# Altium schematic symbol library RoketAnaSistemSematikKütüphane.SchLib: 40 symbols
Pins are listed as number, name and electrical type; pins without a type are passive.

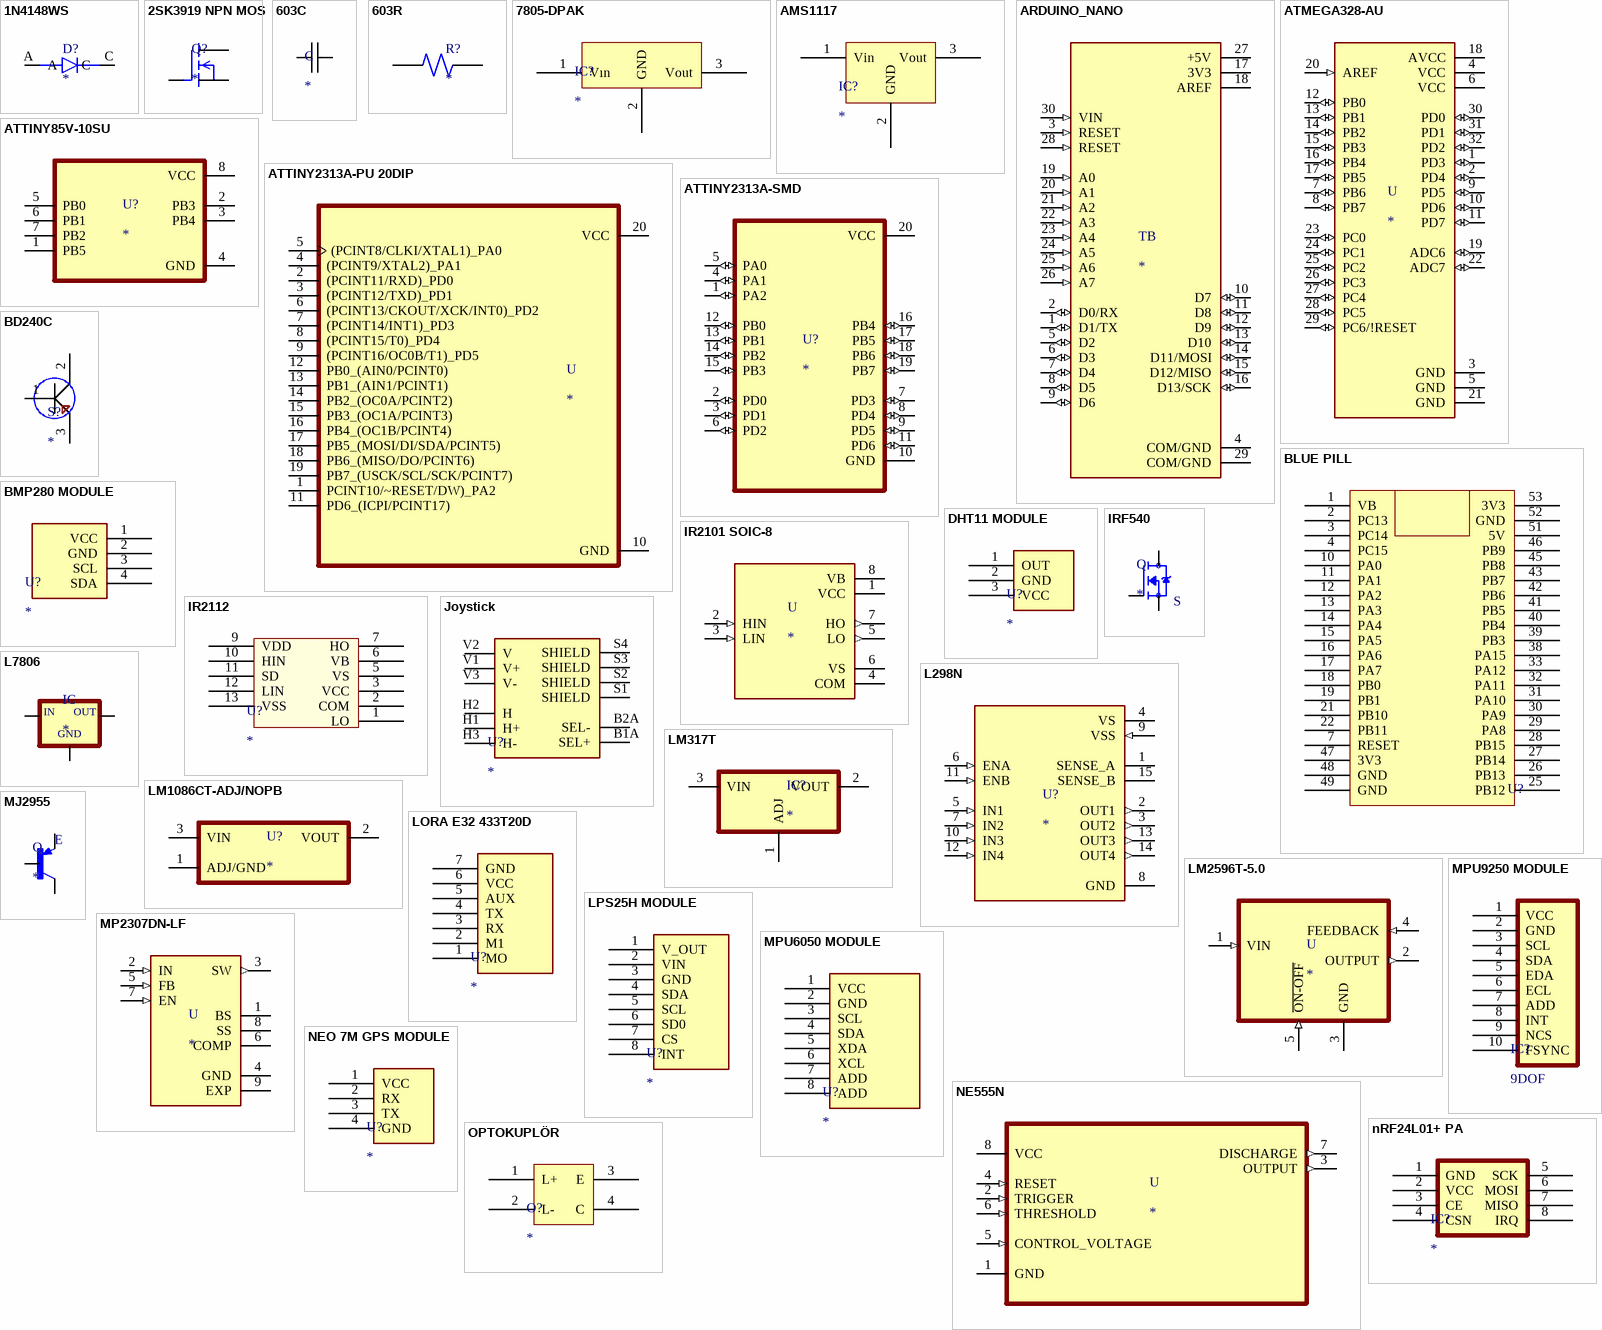
[diagram p0: symbols 1N4148WS to OPTOKUPLÖR]

## 1N4148WS
designator D?
Diode Standard 75V 150mA Surface Mount SOD-323F; MP: 1N4148WS; MF: ON Semiconductor; Price: None; SnapEDA_Link: https://www.snapeda.com/parts/1N4148WS/ON%20Semiconductor/view-part/2747266/?ref=snap; Check_prices: https://www.snapeda.com/parts/1N4148WS/ON%20Semiconductor/view-part/2747266/?ref=eda; Availability: Good; Value: *; Purchase-URL: https://pricing.snapeda.com/search/part/1N4148WS/?ref=eda; Package: SOD-323FL-2 ON Semiconductor
footprint 1N4148WS (SMD DIODE)
pins: A, C

## 2SK3919 NPN MOS
designator Q?
N-Channel 25V 64A _ Through Hole TO-252AB; MF: International Rectifier; MP: IRFL014; SnapEDA_Link: https://www.snapeda.com/parts/IRFL014/International+Rectifier/view-part/?ref=snap; Check_prices: https://www.snapeda.com/parts/IRFL014/International+Rectifier/view-part/?ref=eda; Availability: In Stock; Value: *; Package: SOT-223 International Rectifier; Purchase-URL: https://pricing.snapeda.com/search/part/IRFL014/?ref=eda; Price: None
footprint 2SK3919 (D-PAK, 3-Pads, Body 6,15x6,61mm (max), IPC Medium Density)
pins: 1 G, 2 D, 3 S

## 603C
designator C
Ceramic Capacitor; MF: AVX; MP: LD035C153KAB2A_0; SnapEDA_Link: https://www.snapeda.com/parts/LD035C153KAB2A%5C500/AVX/view-part/2023938/?ref=snap; Price: None; Package: 0603 AVX; Availability: Unavailable; Value: *
footprint 603C
pins: 1, 2

## 603R
designator R?
Fixed Resistor CRGCQ 0603 22K 5%; MP: 2-2176340-7; Package: None; Price: None; Value: *; Availability: Unavailable
footprint 603R
pins: 1, 2

## 7805-DPAK
designator IC?
SMD VOLTAGE REG +7V TO 5V
footprint 7805-DPAK (SMD VOLTAGE REGULATOR)
pins: 1 Vın, 2 GND, 3 Vout

## AMS1117
designator IC?
SOT 223 - 5V
footprint AMS1117 - 5V (SOT-223)
pins: 1 Vin, 2 GND, 3 Vout

## ARDUINO_NANO
designator TB
ATSAMD21G18A Arduino Nano 33 IoT SAM D ARMÂ® CortexÂ®-M0+ MCU 32-Bit Embedded Evaluation Board; MP: ARDUINO NANO; Package: None; Price: None; Availability: Unavailable; Value: *; MF: Arduino; SnapEDA_Link: https://www.snapeda.com/parts/ARDUINO%20NANO/Arduino/view-part/1128261/?ref=snap
footprint ARDUINO NANO (NANO MODULE)
pins: 1 D1/TX (io), 2 D0/RX (io), 3 RESET (in), 4 COM/GND (power), 5 D2 (io), 6 D3 (io), 7 D4 (io), 8 D5 (io), 9 D6 (io), 10 D7 (io), 11 D8 (io), 12 D9 (io), 13 D10 (io), 14 D11/MOSI (io), 15 D12/MISO (io), 16 D13/SCK (io), 17 3V3 (power), 18 AREF (power), 19 A0 (in), 20 A1 (in), 21 A2 (in), 22 A3 (in), 23 A4 (in), 24 A5 (in), 25 A6 (in), 26 A7 (in), 27 +5V (power), 28 RESET (in), 29 COM/GND (power), 30 VIN (in)

## ATMEGA328-AU
designator U
AVR AVRÂ® ATmega Microcontroller IC 8-Bit 20MHz 32KB _16K x 16_ FLASH 32-TQFP _7x7_; MP: ATMEGA328-AU; MF: Microchip; Price: None; Package: TQFP-32 Microchip; Value: *; Availability: Unavailable; SnapEDA_Link: https://www.snapeda.com/parts/ATMEGA328-AU/Microchip/view-part/1227240/?ref=snap
footprint ATMEGA328-AU
pins: 1 PD3 (io), 2 PD4 (io), 3 GND (power), 4 VCC (power), 5 GND (power), 6 VCC (power), 7 PB6 (io), 8 PB7 (io), 9 PD5 (io), 10 PD6 (io), 11 PD7 (io), 12 PB0 (io), 13 PB1 (io), 14 PB2 (io), 15 PB3 (io), 16 PB4 (io), 17 PB5 (io), 18 AVCC (power), 19 ADC6 (io), 20 AREF (in), 21 GND (power), 22 ADC7 (io), 23 PC0 (io), 24 PC1 (io), 25 PC2 (io), 26 PC3 (io), 27 PC4 (io), 28 PC5 (io), 29 PC6/!RESET (io), 30 PD0 (io), 31 PD1 (io), 32 PD2 (io)

## ATTINY85V-10SU
designator U?
AVR AVRÂ® ATtiny Microcontroller IC 8-Bit 10MHz 8KB (4K x 16) FLASH 8-SOIC; MF: Microchip Technology; MP: ATTINY85V-10SU; Arrow_Electronics-Purchase-URL: https://snapeda.com/shop?store=Arrow+Electronics&id=4710232; Value: *; SnapEDA_Link: https://www.snapeda.com/parts/ATTINY85V-10SU/Microchip/view-part/4710232/?ref=snap; DigiKey-Purchase-URL: https://snapeda.com/shop?store=DigiKey&id=4710232; Mouser-Purchase-URL: https://snapeda.com/shop?store=Mouser&id=4710232; Package: SOIC-8 Microchip Technology
footprint ATTINY85V-10SU (IC-85 MCU 8BIT 8KB FLASH 8SOIC)
pins: 1 PB5, 2 PB3, 3 PB4, 4 GND, 5 PB0, 6 PB1, 7 PB2, 8 VCC

## ATTINY2313A-PU 20DIP
designator U
IC MCU 8BIT 2KB FLASH 20DIP; MF: Microchip Technology; MP: ATTINY2313A-PU; DigiKey-Purchase-URL: https://snapeda.com/shop?store=DigiKey&id=4833406; Mouser-Purchase-URL: https://snapeda.com/shop?store=Mouser&id=4833406; SnapEDA_Link: https://www.snapeda.com/parts/ATTINY2313A-PU/Atmel/view-part/4833406/?ref=snap; Price: None; Value: *; Availability: Unavailable; Package: None
footprint ATtiny2313 (ATtiny2313A-PU 8-Bit 20MHz MCU DIP-20)
pins: 1 PCINT10/~RESET/DW)_PA2, 2 (PCINT11/RXD)_PD0, 3 (PCINT12/TXD)_PD1, 4 (PCINT9/XTAL2)_PA1, 5 (PCINT8/CLKI/XTAL1)_PA0, 6 (PCINT13/CKOUT/XCK/INT0)_PD2, 7 (PCINT14/INT1)_PD3, 8 (PCINT15/T0)_PD4, 9 (PCINT16/OC0B/T1)_PD5, 10 GND (power), 11 PD6_(ICPI/PCINT17), 12 PB0_(AIN0/PCINT0), 13 PB1_(AIN1/PCINT1), 14 PB2_(OC0A/PCINT2), 15 PB3_(OC1A/PCINT3), 16 PB4_(OC1B/PCINT4), 17 PB5_(MOSI/DI/SDA/PCINT5), 18 PB6_(MISO/DO/PCINT6), 19 PB7_(USCK/SCL/SCK/PCINT7), 20 VCC (power)

## ATTINY2313A-SMD
designator U?
AVR AVRÂ® ATtiny Microcontroller IC 8-Bit 20MHz 2KB (1K x 16) FLASH 20-SOIC; MP: ATTINY2313A-SU; MF: Rochester Electronics, LLC; Price: None; Package: None; Check_prices: https://www.snapeda.com/parts/ATTINY2313A-SU/Rochester%20Electronics/view-part/5164743/?ref=eda; Value: *; Availability: In Stock; SnapEDA_Link: https://www.snapeda.com/parts/ATTINY2313A-SU/Rochester%20Electronics/view-part/5164743/?ref=snap
footprint ATTINY2313 SMD (SMD MICROCONTROLLER)
pins: 1 PA2 (io), 2 PD0 (io), 3 PD1 (io), 4 PA1 (io), 5 PA0 (io), 6 PD2 (io), 7 PD3 (io), 8 PD4 (io), 9 PD5 (io), 10 GND (power), 11 PD6 (io), 12 PB0 (io), 13 PB1 (io), 14 PB2 (io), 15 PB3 (io), 16 PB4 (io), 17 PB5 (io), 18 PB6 (io), 19 PB7 (io), 20 VCC (power)

## BD240C
designator S?
TO 220
footprint BD240C (TO 220)
pins: 1, 2, 3

## BLUE PILL
designator U?
STM32F013C8T6 BLUE PILL MODULE
footprint STM32--BLUE PILL
pins: 1 VB, 2 PC13, 3 PC14, 4 PC15, 7 RESET, 10 PA0, 11 PA1, 12 PA2, 13 PA3, 14 PA4, 15 PA5, 16 PA6, 17 PA7, 18 PB0, 19 PB1, 21 PB10, 22 PB11, 25 PB12, 26 PB13, 27 PB14, 28 PB15, 29 PA8, 30 PA9, 31 PA10, 32 PA11, 33 PA12, 38 PA15, 39 PB3, 40 PB4, 41 PB5, 42 PB6, 43 PB7, 45 PB8, 46 PB9, 47 3V3, 48 GND, 49 GND, 51 5V, 52 GND, 53 3V3

## BMP280 MODULE
designator U?
PRESSURE,ALTITUDE SENSOR MODULE
footprint BMP280 MODULE (SENSOR MODULE)
pins: 1 VCC, 2 GND, 3 SCL, 4 SDA

## DHT11 MODULE
designator U?
TEMPERATURE SENSOR MODULE
footprint DHT11 MODULE (TEMPERATURE SENSOR MODULE)
pins: 1 OUT, 2 GND, 3 VCC

## IR2101 SOIC-8
designator U
Half-Bridge Gate Driver IC Non-Inverting 8-SOIC; MP: IR2101S; MF: Infineon Technologies; Availability: Unavailable; Value: *; Package: SOIC-8 Infineon; Price: None; SnapEDA_Link: https://www.snapeda.com/parts/IR2101S/Infineon%20Technologies/view-part/589975/?ref=snap; BuyPart: https://www.snapeda.com/parts/IR2101S/Infineon%20Technologies/view-part/589975/?ref=eda
footprint IR2101 (SOIC-8 FET DRIVER)
pins: 1 VCC (power), 2 HIN (in), 3 LIN (in), 4 COM (power), 5 LO (out), 6 VS (power), 7 HO (out), 8 VB (power)

## IR2112
designator U?
HIGH AND LOW SIDE DRIVER THOURH HOLE/SMD; MP: IR2112S; Package: None; Price: None; Value: *; Availability: Unavailable
footprint IR2112 (DIP14 BOOSTRAP DRIVER)
pins: 1 LO, 2 COM, 3 VCC, 5 VS, 6 VB, 7 HO, 9 VDD, 10 HIN, 11 SD, 12 LIN, 13 VSS

## IRF540
designator Q
N-Channel 100V 22A _Tc_ 85W _Tc_ Through Hole TO-220AB; MF: Vishay; MP: IRF540; Package: TO-220-3 Samsung; Price: None; Availability: Unavailable; SnapEDA_Link: https://www.snapeda.com/parts/IRF540/Vishay%20Siliconix/view-part/1024526/?ref=snap; Value: *
footprint IRF540 MOSFET (TO254 N CHANNEL MOSFET)
pins: 1 G, 2 D, 3 S

## Joystick
designator U?
Joystick, 2 - Axis Analog _Resistive_ Output; MF: SparkFun Electronics; MP: COM-09032; SnapEDA_Link: https://www.snapeda.com/parts/COM-09032/SparkFun%20Electronics/view-part/888157/?ref=snap; Availability: Unavailable; Value: *; Price: None; Package: SparkFun Electronics
footprint Joystick
pins: B1A SEL+, B2A SEL-, H1 H+, H2 H, H3 H-, S1 SHIELD, S2 SHIELD, S3 SHIELD, S4 SHIELD, V1 V+, V2 V, V3 V-

## L298N
designator U?
Dual Full Bridge Motor Driver 15-Pin(15+Tab) MULTIWATT V Tube; MP: L298N; Value: *; Package: None; Availability: Unavailable; Price: None
footprint l298 (motor driver)
pins: 1 SENSE_A, 2 OUT1 (out), 3 OUT2 (out), 4 VS (power), 5 IN1 (in), 6 ENA (in), 7 IN2 (in), 8 GND (power), 9 VSS (in), 10 IN3 (in), 11 ENB (in), 12 IN4 (in), 13 OUT3 (out), 14 OUT4 (out), 15 SENSE_B

## L7806
designator IC
TO 220 6V 1A; MP: L7805; MF: STMicroelectronics; Package: TO-263-3 Inchange Semiconductor; Availability: Unavailable; Value: *; SnapEDA_Link: https://www.snapeda.com/parts/L7805/STMicroelectronics/view-part/563125/?ref=snap; Price: None
footprint 7806 (TO 220 6V 1A)
pins: GND, IN, OUT

## LM317T
designator IC?
1.5-A, 40-V, adjustable linear voltage regulator 3-TO-220; MF: Texas Instruments; MP: LM317T; Arrow_Electronics-Purchase-URL: https://snapeda.com/shop?store=Arrow+Electronics&id=2756289; Price: None; Value: *; Availability: Unavailable; DigiKey-Purchase-URL: https://snapeda.com/shop?store=DigiKey&id=2756289; Mouser-Purchase-URL: https://snapeda.com/shop?store=Mouser&id=2756289; SnapEDA_Link: https://www.snapeda.com/parts/LM317T/Texas%20Instruments/view-part/2756289/?ref=snap; Package: TO-220-3 Texas Instruments
footprint LM317 (1.5A ADJ LINEAR REGULATOR)
pins: 1 ADJ, 2 VOUT, 3 VIN

## LM1086CT-ADJ/NOPB
designator U?
1.5-A, 29-V, linear voltage regulator 3-TO-220 0 to 125; MF: Texas Instruments; MP: LM1086CT-ADJ/NOPB; Purchase-URL: https://pricing.snapeda.com/search/part/LM1086CT-ADJ/NOPB/?ref=eda; SnapEDA_Link: https://www.snapeda.com/parts/LM1086CT-ADJ/NOPB/Texas%20Instruments/view-part/27686/?ref=snap; Package: TO-220-3 Texas Instruments; Price: None; Value: *; Availability: Warning; Check_prices: https://www.snapeda.com/parts/LM1086CT-ADJ/NOPB/Texas%20Instruments/view-part/27686/?ref=eda
footprint LM1086 TO256 (3V3 1.5A LINEAR REGULATOR)
pins: 1 ADJ/GND, 2 VOUT, 3 VIN

## LM2596T-5.0
designator U
Buck Switching Regulator IC Positive Fixed 5V 1 Output 3A TO-220-5 Formed Leads; MF: Texas Instruments; MP: LM2596T5.0; Price: None; Availability: Unavailable; SnapEDA_Link: https://www.snapeda.com/parts/LM2596T5.0/Texas%20Instruments/view-part/49420/?ref=snap; Package: TO-220 Texas Instruments; Value: *
footprint LM2596 (TO-220)
pins: 1 VIN (in), 2 OUTPUT (out), 3 GND (power), 4 FEEDBACK (in), 5 ~{ON-OFF} (in)

## LORA E32 433T20D
designator U?
LORA E32 433T20D RF MODULE
footprint LORA E32 433T20D (LORA E32 433T20D RF MODULE)
pins: 1 MO, 2 M1, 3 RX, 4 TX, 5 AUX, 6 VCC, 7 GND

## LPS25H MODULE
designator U?
ALTITUDE, PRESSURE SENSOR MODULE
footprint LPS25H SENSOR (SENSOR MODULE)
pins: 1 V_OUT, 2 VIN, 3 GND, 4 SDA, 5 SCL, 6 SD0, 7 CS, 8 INT

## MJ2955
designator Q
Bipolar _BJT_ Transistor PNP 60V 15A 115W Chassis Mount TO-3; MF: STMicroelectronics; MP: MJ2955; SnapEDA_Link: https://www.snapeda.com/parts/MJ2955/STMicroelectronics/view-part/1262668/?ref=snap; Price: None; Value: *; Availability: Unavailable; Package: TO-3 NTE Electronics
footprint MJ2955 (TO3)
pins: B, C, C/ C, E

## MP2307DN-LF
designator U
Buck Switching Regulator IC Positive Adjustable 0.925V 1 Output 3A 8-SOIC _0.154, 3.90mm Width_ Exposed Pad; MP: MP2307DN-LF; MF: Monolithic Power; Availability: Unavailable; Price: None; Package: SOIC-8 Monolithic Power Systems; Value: *; SnapEDA_Link: https://www.snapeda.com/parts/MP2307DN-LF/Monolithic%20Power%20Systems%20Inc./view-part/424671/?ref=snap
footprint mp2307dn (Buck Converter)
pins: 1 BS, 2 IN (in), 3 SW (out), 4 GND (power), 5 FB (in), 6 COMP, 7 EN (in), 8 SS, 9 EXP (power)

## MPU6050 MODULE
designator U?
GYRO SENSOR MODULE
footprint MPU 6050 (GYRO SENSOR MODULE)
pins: 1 VCC, 2 GND, 3 SCL, 4 SDA, 5 XDA, 6 XCL, 7 ADD, 8 ADD

## MPU9250 MODULE
designator IC?, comment 9DOF
9 DOF IMU SENSOR MODULE. I2C/SPI COMM.
footprint MPU9250 MODULE - duplicate (9 DOF IMU SENSOR MODULE)
pins: 1 VCC, 2 GND, 3 SCL, 4 SDA, 5 EDA, 6 ECL, 7 ADD, 8 INT, 9 NCS, 10 FSYNC

## NE555N
designator U
555 Type, Timer/Oscillator _Single_ IC 8-DIP; MF: ON Semiconductor; MP: NE555N; Value: *; Price: None; Package: DIP-8 Texas Instruments; SnapEDA_Link: https://www.snapeda.com/parts/NE555N/ON%20Semiconductor/view-part/2757993/?ref=snap; Availability: Unavailable
footprint NE555 -T
pins: 1 GND, 2 TRIGGER (in), 3 OUTPUT (out), 4 RESET (in), 5 CONTROL_VOLTAGE (in), 6 THRESHOLD (in), 7 DISCHARGE (out), 8 VCC (power)

## NEO 7M GPS MODULE
designator U?
NEO 7M GPS MODULE
footprint NEO 7M GPS MODULE (GPS MODULE)
pins: 1 VCC, 2 RX, 3 TX, 4 GND

## nRF24L01+ PA
designator IC?
Wireless Module
footprint nRF24L01+ PA (Wireless Module)
pins: 1 GND, 2 VCC, 3 CE, 4 CSN, 5 SCK, 6 MOSI, 7 MISO, 8 IRQ

## OPTOKUPLÖR
designator O?
footprint OPTOKUPLÖR
pins: 1 L+, 2 L-, 3 E, 4 C

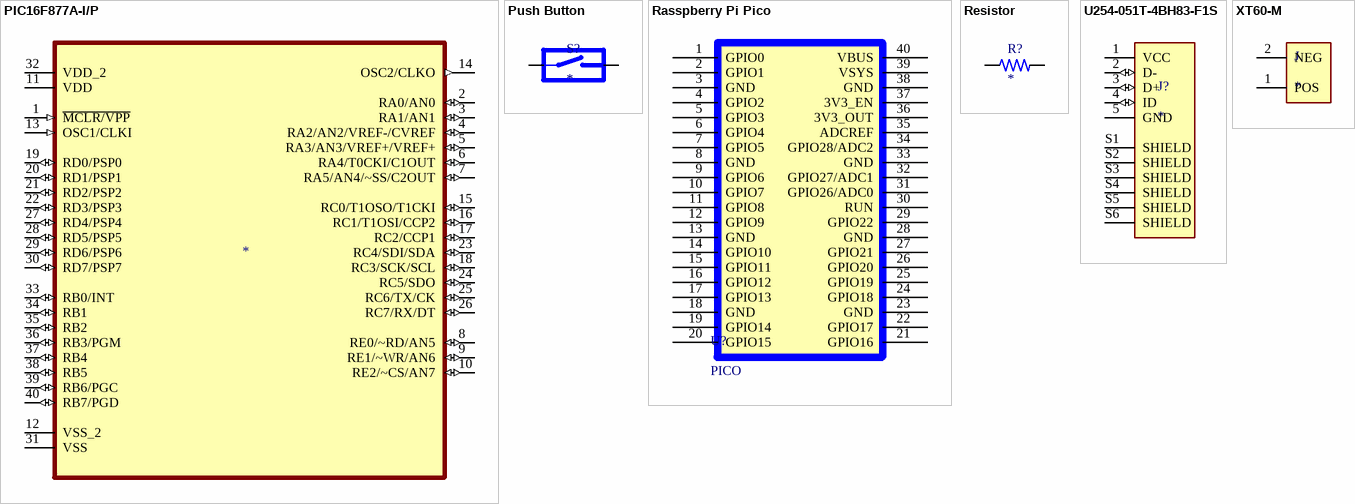
[diagram p1: symbols PIC16F877A-I/P to XT60-M]

## PIC16F877A-I/P
designator ?
PIC PICÂ® 16F Microcontroller IC 8-Bit 20MHz 14KB _8K x 14_ FLASH 40-PDIP; MP: PIC16F877A-I/P; MF: Microchip; Package: DIP-40 Microchip; Price: None; Value: *; SnapEDA_Link: https://www.snapeda.com/parts/PIC16F877A-I/P/Microchip/view-part/1877145/?ref=snap; Availability: Unavailable
footprint pıc16f877
pins: 1 ~{MCLR/VPP} (in), 2 RA0/AN0 (io), 3 RA1/AN1 (io), 4 RA2/AN2/VREF-/CVREF (io), 5 RA3/AN3/VREF+/VREF+ (io), 6 RA4/T0CKI/C1OUT (io), 7 RA5/AN4/~SS/C2OUT (io), 8 RE0/~RD/AN5 (io), 9 RE1/~WR/AN6 (io), 10 RE2/~CS/AN7 (io), 11 VDD (power), 12 VSS_2 (power), 13 OSC1/CLKI (in), 14 OSC2/CLKO (out), 15 RC0/T1OSO/T1CKI (io), 16 RC1/T1OSI/CCP2 (io), 17 RC2/CCP1 (io), 18 RC3/SCK/SCL (io), 19 RD0/PSP0 (io), 20 RD1/PSP1 (io), 21 RD2/PSP2 (io), 22 RD3/PSP3 (io), 23 RC4/SDI/SDA (io), 24 RC5/SDO (io), 25 RC6/TX/CK (io), 26 RC7/RX/DT (io), 27 RD4/PSP4 (io), 28 RD5/PSP5 (io), 29 RD6/PSP6 (io), 30 RD7/PSP7 (io), 31 VSS (power), 32 VDD_2 (power), 33 RB0/INT (io), 34 RB1 (io), 35 RB2 (io), 36 RB3/PGM (io), 37 RB4 (io), 38 RB5 (io), 39 RB6/PGC (io), 40 RB7/PGD (io)

## Push Button
designator S?
Switch Push Button N.O. SPST Round Button 0.05A 12VDC 1VA Alternate Contact Gull Wing SMD T/R; MP: FSM6JSMATR; MF: TE Connectivity; SnapEDA_Link: https://www.snapeda.com/parts/FSM6JSMATR/TE%20Connectivity%20ALCOSWITCH%20Switches/view-part/518064/?ref=snap; Price: None; TE_purchase_URL: https://www.te.com/usa-en/product-5-1437565-0.html?te_bu=Cor&te_type=disp&te_campaign=seda_glo_cor-seda-global-disp-prtnr-fy19-seda-model-bom-cta_sma-317_1&elqCampaignId=32493; Value: *; Availability: Unavailable; Package: None
footprint Push Button
pins: 1 2, 2, 3 1, 4 1

## Rasspberry Pi Pico
designator U?, comment PICO
133MHz MICROCONTROLLER
footprint RASSBERY PI PICO (PROCESSOR MODULE)
pins: 1 GPIO0, 2 GPIO1, 3 GND, 4 GPIO2, 5 GPIO3, 6 GPIO4, 7 GPIO5, 8 GND, 9 GPIO6, 10 GPIO7, 11 GPIO8, 12 GPIO9, 13 GND, 14 GPIO10, 15 GPIO11, 16 GPIO12, 17 GPIO13, 18 GND, 19 GPIO14, 20 GPIO15, 21 GPIO16, 22 GPIO17, 23 GND, 24 GPIO18, 25 GPIO19, 26 GPIO20, 27 GPIO21, 28 GND, 29 GPIO22, 30 RUN, 31 GPIO26/ADC0, 32 GPIO27/ADC1, 33 GND, 34 GPIO28/ADC2, 35 ADCREF, 36 3V3_OUT, 37 3V3_EN, 38 GND, 39 VSYS, 40 VBUS

## Resistor
designator R?
2512 Resistor; MP: 3-2176058-0; Package: None; Price: None; Value: *; Availability: Unavailable
footprint Resistor (2512 Resistor)
pins: 1, 2

## U254-051T-4BH83-F1S
designator J?
USB - Micro B Female USB 2 5 SMD USB Connectors RoHS; MF: XKB Industrial Precision; MP: U254-051T-4BH83-F1S; Check_prices: https://www.snapeda.com/parts/U254-051T-4BH83-F1S/XKB%20Industrial%20Precision/view-part/4967971/?ref=eda; SnapEDA_Link: https://www.snapeda.com/parts/U254-051T-4BH83-F1S/XKB%20Industrial%20Precision/view-part/4967971/?ref=snap; Availability: Unavailable; Value: *; Price: None; Package: Package
footprint XKB_U254-051T-4BH83-F1S
pins: 1 VCC (power), 2 D- (io), 3 D+ (io), 4 ID (io), 5 GND (power), S1 SHIELD, S2 SHIELD, S3 SHIELD, S4 SHIELD, S5 SHIELD, S6 SHIELD

## XT60-M
designator J
Plug; DC supply; XT60; male; PIN: 2; for cable; soldered; 30A; 500V; MP: XT60-M; MF: AMASS; Price: None; Package: Package Analog Devices; Value: *; Availability: Unavailable; SnapEDA_Link: https://www.snapeda.com/parts/XT60-M/AMASS/view-part/2883912/?ref=snap
footprint AMASS_XT60-M
pins: 1 POS, 2 NEG